# Altium footprint library Buck.PcbLib: 30 footprints (part 2 of 2)
Each footprint in its own frame and in the unit in brackets; x right, y up, seen from the top. Pads: shape width x height; smd on the part's side, far side on the other; paste and mask are expansions set on the pad; w line width, h text height; cw(c..) or ccw(c..) is an arc to the next point about the centre after c.
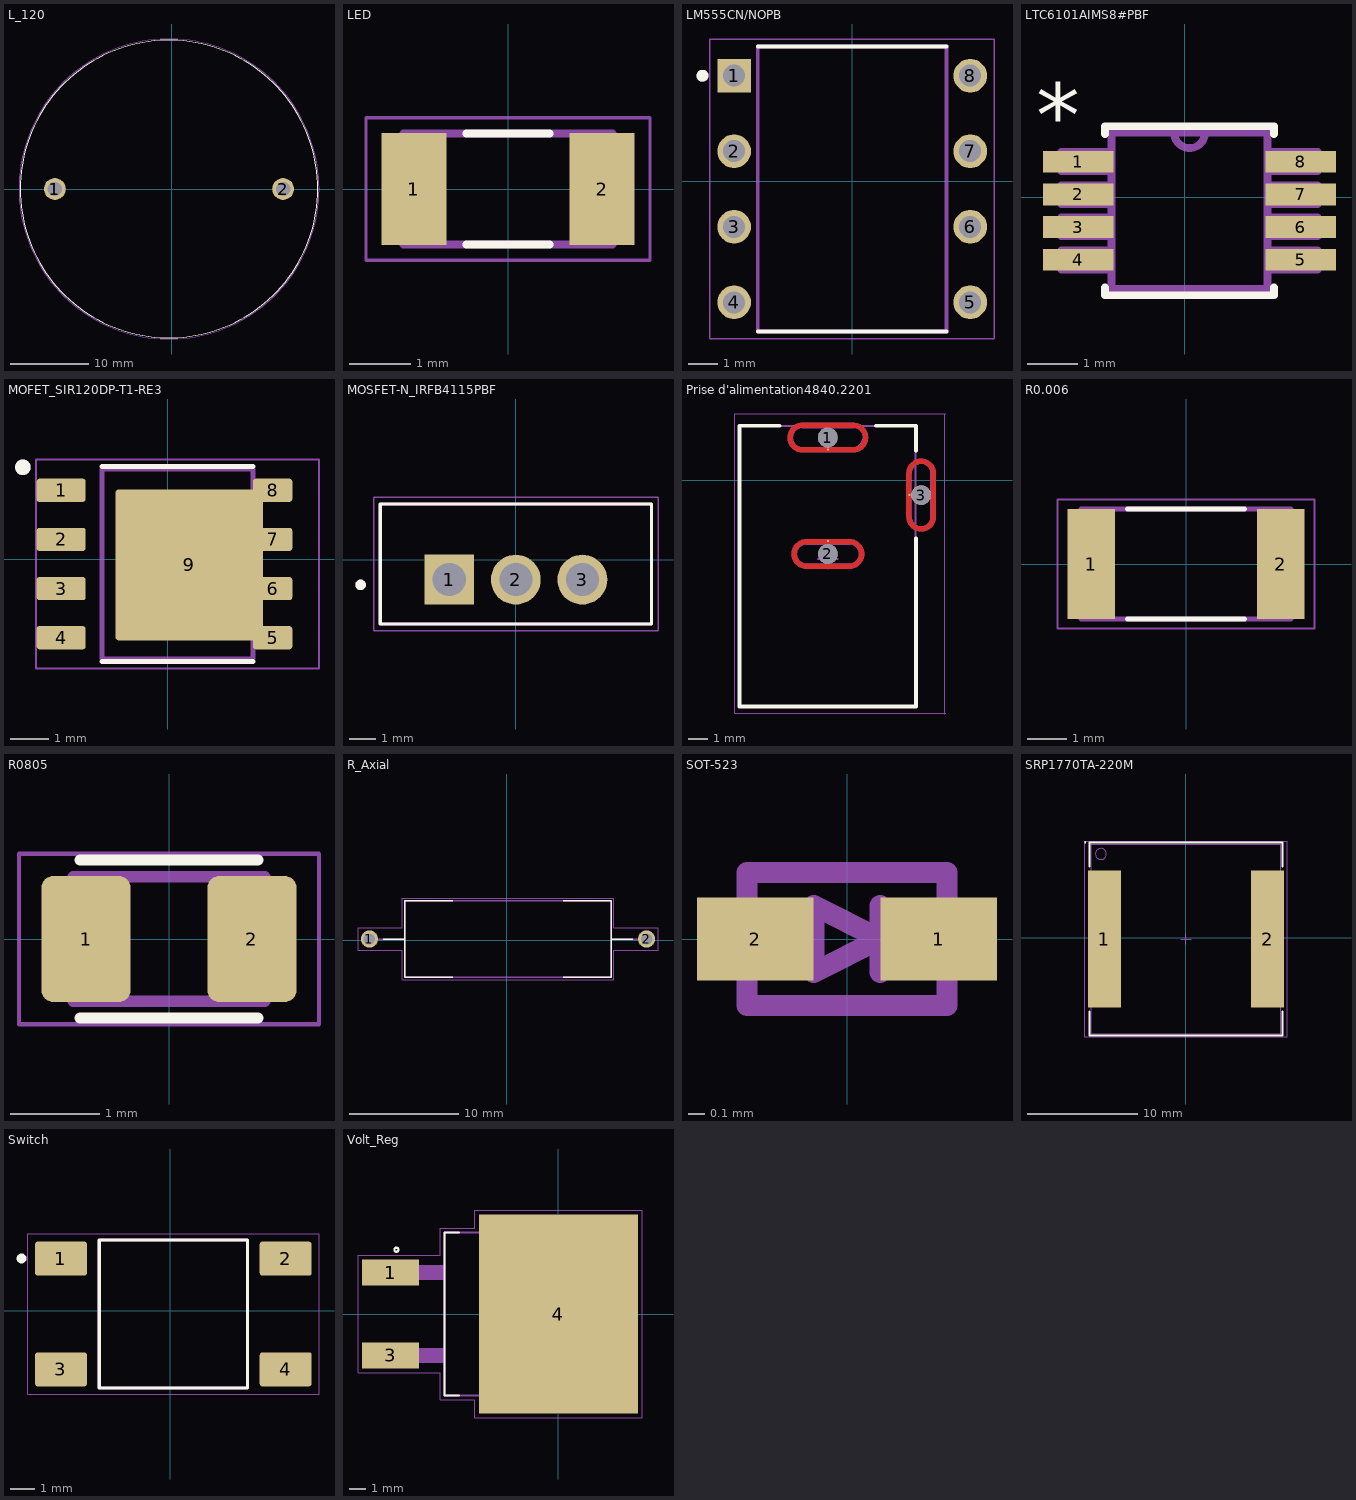
[diagram p1: the footprints below, top view; thin cyan lines are the x and y axes]

## L_120 [mm]
pads (2):
  round 2.8 hole 1.85: 1(-14.986,0) 2(14.224,0)
Top Overlay:
  circle w0.127: c-0.381,0 r19.05
Mechanical 15:
  circle w0.127: c-0.381,0 r19.2
3D body: height 26, standoff 0, extent -19.508,-18.842 18.492,19.147

## LED [mm]
pads (2):
  rect 1.06x1.82 smd: 1(-1.528,0) 2(1.528,0)
Top Overlay:
  lines w0.127: -0.68,-0.9 0.68,-0.9 ; -0.68,0.9 0.68,0.9
Mechanical 13:
  lines w0.127: -1.7,-0.9 -1.7,0.9 1.7,0.9 1.7,-0.9 -1.7,-0.9
Mechanical 15:
  lines w0.05: -2.308,-1.158 -2.308,1.158 2.308,1.158 2.308,-1.158 -2.308,-1.158
3D body "BL-LS0805UWC.STEP": height 0.8, standoff 0, extent -0.925,-0.635 0.875,0.615

## LM555CN/NOPB [mm]
pads (8):
  rect 1.13x1.13 hole 0.74: 1(-3.97,3.556)
  round 1.13 hole 0.74: 2(-3.97,1.016) 3(-3.97,-1.524) 4(-3.97,-4.064) 5(3.97,-4.064) 6(3.97,-1.524) 7(3.97,1.016) 8(3.97,3.556)
Top Overlay:
  circle w0.2: c-5.035,3.556 r0.1
  lines w0.127: -3.175,-5.049 3.175,-5.049 ; -3.175,4.541 3.175,4.541
Mechanical 13:
  circle w0.2: c-5.035,3.556 r0.1
  lines w0.127: -3.175,-5.049 3.175,-5.049 3.175,4.541 -3.175,4.541 -3.175,-5.049
Mechanical 15:
  lines w0.05: -4.785,-5.299 4.785,-5.299 4.785,4.791 -4.785,4.791 -4.785,-5.299
3D body "DIP8.STEP": height 3.85, standoff -2, extent -3.859,-4.727 4.011,4.473

## LTC6101AIMS8#PBF [mil]
pads (8):
  rect 55x17 smd: 1(-83.25,27.88) 2(-83.25,2.29) 3(-83.25,-23.3) 4(-83.25,-48.89) 5(90.75,-48.89) 6(90.75,-23.3) 7(90.75,2.29) 8(90.75,27.88)
Top Overlay:
  lines w6: -62.25,-70.5 -62.25,-76.5 69.75,-76.5 69.75,-70.5 ; -62.25,49.5 -62.25,55.5 69.75,55.5 69.75,49.5
  text "*" at -116.25,39.5 h50
Mechanical 13:
  lines w6: -8.25,50.5 ccw(c3.75,50.5) 15.75,50.5 ; -8.25,50.5 15.75,50.5 ; -8.25,50.5 -57.25,50.5 -57.25,-71.5 64.75,-71.5 64.75,50.5 15.75,50.5 ; -96.25,-56.5 -96.25,-41.5 -57.25,-41.5 -57.25,-56.5 -96.25,-56.5 ; -96.25,-30.5 -96.25,-15.5 -57.25,-15.5 -57.25,-30.5 -96.25,-30.5 ; -96.25,-5.5 -96.25,9.5 -57.25,9.5 -57.25,-5.5 -96.25,-5.5 ; -96.25,20.5 -96.25,35.5 -57.25,35.5 -57.25,20.5 -96.25,20.5 ; 64.75,-56.5 64.75,-41.5 103.75,-41.5 103.75,-56.5 64.75,-56.5 ; 64.75,-30.5 64.75,-15.5 103.75,-15.5 103.75,-30.5 64.75,-30.5 ; 64.75,-5.5 64.75,9.5 103.75,9.5 103.75,-5.5 64.75,-5.5 ; 64.75,20.5 64.75,35.5 103.75,35.5 103.75,20.5 64.75,20.5
  text "*" at -65.25,-2.5 h50
3D body "step_temp.STEP": height 40.55, standoff -2.76, extent -92.7,-69.56 100.21,48.55

## MOFET_SIR120DP-T1-RE3 [mm]
pads (9):
  rrect25% 1.27x0.6 smd: 1(-2.756,1.778) 2(-2.756,0.508) 3(-2.756,-0.762) 4(-2.756,-2.032)
  rrect25% 1.02x0.6 smd: 5(2.709,-2.032) 6(2.709,-0.762) 7(2.709,0.508) 8(2.709,1.778)
  rrect5% 3.81x3.91 smd: 9(0.55,-0.15)
Top Overlay:
  circle w0.2: c-3.746,2.373 r0.1
  lines w0.127: -1.696,-2.652 2.204,-2.652 ; -1.696,2.398 2.204,2.398
Mechanical 13:
  circle w0.2: c-3.746,2.373 r0.1
  lines w0.127: -1.696,-2.577 2.204,-2.577 2.204,2.323 -1.696,2.323 -1.696,-2.577
Mechanical 15:
  lines w0.05: -3.401,-2.827 3.909,-2.827 3.909,2.573 -3.401,2.573 -3.401,-2.827
3D body "SO8.STEP": height 2.05, standoff -0.07, extent -3.237,-2.602 2.998,2.398

## MOSFET-N_IRFB4115PBF [mm]
pads (3):
  rect 1.91x1.91 hole 1.27: 1(-2.54,-0.762)
  round 1.91 hole 1.27: 2(0.01,-0.762) 3(2.56,-0.762)
Top Overlay:
  circle w0.2: c-5.94,-0.962 r0.1
  lines w0.127: -5.19,-2.462 5.21,-2.462 5.21,2.138 -5.19,2.138 -5.19,-2.462
Mechanical 13:
  circle w0.2: c-5.94,-0.962 r0.1
  lines w0.127: -5.19,-2.462 -5.19,2.138 5.21,2.138 5.21,-2.462 -5.19,-2.462
Mechanical 15:
  lines w0.05: -5.44,-2.712 -5.44,2.388 5.46,2.388 5.46,-2.712 -5.44,-2.712

## Prise d'alimentation4840.2201 [mm]
pads (6):
  rect 0.1x0.1 smd paste-1 mask+0: 1(7.594,1.579) 2(7.6,-3.1) 3(11.75,-0.75)
  round 1 hole 1 unplated: 1(7.594,2.179) 2(7.6,-3.75) 3(12.35,-0.75)
Top Layer:
  region: 8.933,2.928 8.972,2.925 9.011,2.92 9.05,2.913 9.088,2.903 9.126,2.892 9.163,2.879 9.199,2.864 9.234,2.847 9.269,2.829 9.302,2.808 9.335,2.786 9.366,2.762 9.396,2.736 9.424,2.709 9.451,2.681 9.477,2.651 9.501,2.62 9.523,2.587 9.544,2.554 9.562,2.519 9.579,2.484 9.594,2.448 9.607,2.411 9.618,2.373 9.628,2.335 9.635,2.296 9.64,2.257 9.643,2.218 9.644,2.179 9.643,2.14 9.64,2.101 9.635,2.062 9.628,2.023 9.618,1.985 9.607,1.947 9.594,1.91 9.579,1.874 9.562,1.839 9.544,1.804 9.523,1.771 9.501,1.738 9.477,1.707 9.451,1.677 9.424,1.649 9.396,1.622 9.366,1.596 9.335,1.572 9.302,1.55 9.269,1.529 9.234,1.511 9.199,1.494 9.163,1.479 9.126,1.466 9.088,1.455 9.05,1.445 9.011,1.438 8.972,1.433 8.933,1.43 8.894,1.429 7.594,1.429 7.594,1.679 8.894,1.679 8.92,1.68 8.946,1.682 8.972,1.685 8.998,1.69 9.023,1.696 9.049,1.703 9.073,1.712 9.097,1.722 9.121,1.733 9.144,1.746 9.166,1.76 9.188,1.774 9.209,1.79 9.229,1.807 9.248,1.825 9.266,1.844 9.283,1.864 9.299,1.885 9.313,1.907 9.327,1.929 9.34,1.952 9.351,1.976 9.361,2 9.37,2.024 9.377,2.05 9.383,2.075 9.388,2.101 9.391,2.127 9.393,2.153 9.394,2.179 9.393,2.205 9.391,2.231 9.388,2.257 9.383,2.283 9.377,2.308 9.37,2.334 9.361,2.358 9.351,2.382 9.34,2.406 9.327,2.429 9.313,2.451 9.299,2.473 9.283,2.494 9.266,2.514 9.248,2.533 9.229,2.551 9.209,2.568 9.188,2.584 9.166,2.598 9.144,2.612 9.121,2.625 9.097,2.636 9.073,2.646 9.049,2.655 9.023,2.662 8.998,2.668 8.972,2.673 8.946,2.676 8.92,2.678 8.894,2.679 7.594,2.679 7.594,2.929 8.894,2.929
  region: 7.594,2.679 6.294,2.679 6.268,2.678 6.242,2.676 6.216,2.673 6.19,2.668 6.165,2.662 6.139,2.655 6.115,2.646 6.091,2.636 6.067,2.625 6.044,2.612 6.022,2.598 6,2.584 5.979,2.568 5.959,2.551 5.94,2.533 5.922,2.514 5.905,2.494 5.889,2.473 5.875,2.451 5.861,2.429 5.848,2.406 5.837,2.382 5.827,2.358 5.818,2.334 5.811,2.308 5.805,2.283 5.8,2.257 5.797,2.231 5.795,2.205 5.794,2.179 5.795,2.153 5.797,2.127 5.8,2.101 5.805,2.075 5.811,2.05 5.818,2.024 5.827,2 5.837,1.976 5.848,1.952 5.861,1.929 5.875,1.907 5.889,1.885 5.905,1.864 5.922,1.844 5.94,1.825 5.959,1.807 5.979,1.79 6,1.774 6.022,1.76 6.044,1.746 6.067,1.733 6.091,1.722 6.115,1.712 6.139,1.703 6.165,1.696 6.19,1.69 6.216,1.685 6.242,1.682 6.268,1.68 6.294,1.679 7.594,1.679 7.594,1.429 6.294,1.429 6.255,1.43 6.216,1.433 6.177,1.438 6.138,1.445 6.1,1.455 6.062,1.466 6.025,1.479 5.989,1.494 5.954,1.511 5.919,1.529 5.886,1.55 5.853,1.572 5.822,1.596 5.792,1.622 5.764,1.649 5.737,1.677 5.711,1.707 5.687,1.738 5.665,1.771 5.644,1.804 5.626,1.839 5.609,1.874 5.594,1.91 5.581,1.947 5.57,1.985 5.56,2.023 5.553,2.062 5.548,2.101 5.545,2.14 5.544,2.179 5.545,2.218 5.548,2.257 5.553,2.296 5.56,2.335 5.57,2.373 5.581,2.411 5.594,2.448 5.609,2.484 5.626,2.519 5.644,2.554 5.665,2.587 5.687,2.62 5.711,2.651 5.737,2.681 5.764,2.709 5.792,2.736 5.822,2.762 5.853,2.786 5.886,2.808 5.919,2.829 5.954,2.847 5.989,2.864 6.025,2.879 6.062,2.892 6.1,2.903 6.138,2.913 6.177,2.92 6.216,2.925 6.255,2.928 6.294,2.929 7.594,2.929
  region: 13.1,-1.75 13.099,-1.789 13.096,-1.928 13.091,-1.967 13.084,-2.006 13.074,-2.044 13.063,-2.082 13.05,-2.119 13.035,-2.155 13.018,-2.19 13,-2.225 12.979,-2.258 12.957,-2.291 12.933,-2.322 12.907,-2.352 12.88,-2.38 12.852,-2.407 12.822,-2.433 12.791,-2.457 12.758,-2.479 12.725,-2.5 12.69,-2.518 12.655,-2.535 12.619,-2.55 12.582,-2.563 12.544,-2.574 12.506,-2.584 12.467,-2.591 12.428,-2.596 12.389,-2.599 12.35,-2.6 12.311,-2.599 12.272,-2.596 12.233,-2.591 12.194,-2.584 12.156,-2.574 12.118,-2.563 12.081,-2.55 12.045,-2.535 12.01,-2.518 11.975,-2.5 11.942,-2.479 11.909,-2.457 11.878,-2.433 11.848,-2.407 11.82,-2.38 11.793,-2.352 11.767,-2.322 11.743,-2.291 11.721,-2.258 11.7,-2.225 11.682,-2.19 11.665,-2.155 11.65,-2.119 11.637,-2.082 11.626,-2.044 11.616,-2.006 11.609,-1.967 11.604,-1.928 11.601,-1.889 11.6,-1.85 11.6,-0.75 11.85,-0.75 11.85,-1.85 11.851,-1.876 11.853,-1.902 11.856,-1.928 11.861,-1.954 11.867,-1.979 11.874,-2.005 11.883,-2.029 11.893,-2.053 11.904,-2.077 11.917,-2.1 11.931,-2.122 11.945,-2.144 11.961,-2.165 11.978,-2.185 11.996,-2.204 12.015,-2.222 12.035,-2.239 12.056,-2.255 12.078,-2.269 12.1,-2.283 12.123,-2.296 12.147,-2.307 12.171,-2.317 12.195,-2.326 12.221,-2.333 12.246,-2.339 12.272,-2.344 12.298,-2.347 12.324,-2.349 12.35,-2.35 12.376,-2.349 12.402,-2.347 12.428,-2.344 12.454,-2.339 12.479,-2.333 12.505,-2.326 12.529,-2.317 12.553,-2.307 12.577,-2.296 12.6,-2.283 12.622,-2.269 12.644,-2.255 12.665,-2.239 12.685,-2.222 12.704,-2.204 12.722,-2.185 12.739,-2.165 12.755,-2.144 12.769,-2.122 12.783,-2.1 12.796,-2.077 12.807,-2.053 12.817,-2.029 12.826,-2.005 12.833,-1.979 12.839,-1.954 12.844,-1.928 12.847,-1.902 12.849,-1.876 12.85,-1.85 12.85,-0.75 13.1,-0.75
  region: 12.389,1.099 12.428,1.096 12.467,1.091 12.506,1.084 12.544,1.074 12.582,1.063 12.619,1.05 12.655,1.035 12.69,1.018 12.725,1 12.758,0.979 12.791,0.957 12.822,0.933 12.852,0.907 12.88,0.88 12.907,0.852 12.933,0.822 12.957,0.791 12.979,0.758 13,0.725 13.018,0.69 13.035,0.655 13.05,0.619 13.063,0.582 13.074,0.544 13.084,0.506 13.091,0.467 13.096,0.428 13.099,0.389 13.1,0.35 13.1,-0.75 12.85,-0.75 12.85,0.35 12.849,0.376 12.847,0.402 12.844,0.428 12.839,0.454 12.833,0.479 12.826,0.505 12.817,0.529 12.807,0.553 12.796,0.577 12.783,0.6 12.769,0.622 12.755,0.644 12.739,0.665 12.722,0.685 12.704,0.704 12.685,0.722 12.665,0.739 12.644,0.755 12.622,0.769 12.6,0.783 12.577,0.796 12.553,0.807 12.529,0.817 12.505,0.826 12.479,0.833 12.454,0.839 12.428,0.844 12.402,0.847 12.376,0.849 12.35,0.85 12.324,0.849 12.298,0.847 12.272,0.844 12.246,0.839 12.221,0.833 12.195,0.826 12.171,0.817 12.147,0.807 12.123,0.796 12.1,0.783 12.078,0.769 12.056,0.755 12.035,0.739 12.015,0.722 11.996,0.704 11.978,0.685 11.961,0.665 11.945,0.644 11.931,0.622 11.917,0.6 11.904,0.577 11.893,0.553 11.883,0.529 11.874,0.505 11.867,0.479 11.861,0.454 11.856,0.428 11.853,0.402 11.851,0.376 11.85,0.35 11.85,-0.75 11.6,-0.75 11.6,0.35 11.601,0.389 11.604,0.428 11.609,0.467 11.616,0.506 11.626,0.544 11.637,0.582 11.65,0.619 11.665,0.655 11.682,0.69 11.7,0.725 11.721,0.758 11.743,0.791 11.767,0.822 11.793,0.852 11.82,0.88 11.848,0.907 11.878,0.933 11.909,0.957 11.942,0.979 11.975,1 12.01,1.018 12.045,1.035 12.081,1.05 12.118,1.063 12.156,1.074 12.194,1.084 12.233,1.091 12.272,1.096 12.311,1.099 12.35,1.1
  region: 8.739,-3.001 8.778,-3.004 8.817,-3.009 8.856,-3.016 8.894,-3.026 8.932,-3.037 8.969,-3.05 9.005,-3.065 9.04,-3.082 9.075,-3.1 9.108,-3.121 9.141,-3.143 9.172,-3.167 9.202,-3.193 9.23,-3.22 9.257,-3.248 9.283,-3.278 9.307,-3.309 9.329,-3.342 9.35,-3.375 9.368,-3.41 9.385,-3.445 9.4,-3.481 9.413,-3.518 9.424,-3.556 9.434,-3.594 9.441,-3.633 9.446,-3.672 9.449,-3.711 9.45,-3.75 9.449,-3.789 9.446,-3.828 9.441,-3.867 9.434,-3.906 9.424,-3.944 9.413,-3.982 9.4,-4.019 9.385,-4.055 9.368,-4.09 9.35,-4.125 9.329,-4.158 9.307,-4.191 9.283,-4.222 9.257,-4.252 9.23,-4.28 9.202,-4.307 9.172,-4.333 9.141,-4.357 9.108,-4.379 9.075,-4.4 9.04,-4.418 9.005,-4.435 8.969,-4.45 8.932,-4.463 8.894,-4.474 8.856,-4.484 8.817,-4.491 8.778,-4.496 8.739,-4.499 8.7,-4.5 7.6,-4.5 7.6,-4.25 8.7,-4.25 8.726,-4.249 8.752,-4.247 8.778,-4.244 8.804,-4.239 8.829,-4.233 8.855,-4.226 8.879,-4.217 8.903,-4.207 8.927,-4.196 8.95,-4.183 8.972,-4.169 8.994,-4.155 9.015,-4.139 9.035,-4.122 9.054,-4.104 9.072,-4.085 9.089,-4.065 9.105,-4.044 9.119,-4.022 9.133,-4 9.146,-3.977 9.157,-3.953 9.167,-3.929 9.176,-3.905 9.183,-3.879 9.189,-3.854 9.194,-3.828 9.197,-3.802 9.199,-3.776 9.2,-3.75 9.199,-3.724 9.197,-3.698 9.194,-3.672 9.189,-3.646 9.183,-3.621 9.176,-3.595 9.167,-3.571 9.157,-3.547 9.146,-3.523 9.133,-3.5 9.119,-3.478 9.105,-3.456 9.089,-3.435 9.072,-3.415 9.054,-3.396 9.035,-3.378 9.015,-3.361 8.994,-3.345 8.972,-3.331 8.95,-3.317 8.927,-3.304 8.903,-3.293 8.879,-3.283 8.855,-3.274 8.829,-3.267 8.804,-3.261 8.778,-3.256 8.752,-3.253 8.726,-3.251 8.7,-3.25 7.6,-3.25 7.6,-3 8.7,-3
  region: 7.6,-3.25 6.5,-3.25 6.474,-3.251 6.448,-3.253 6.422,-3.256 6.396,-3.261 6.371,-3.267 6.345,-3.274 6.321,-3.283 6.297,-3.293 6.273,-3.304 6.25,-3.317 6.228,-3.331 6.206,-3.345 6.185,-3.361 6.165,-3.378 6.146,-3.396 6.128,-3.415 6.111,-3.435 6.095,-3.456 6.081,-3.478 6.067,-3.5 6.054,-3.523 6.043,-3.547 6.033,-3.571 6.024,-3.595 6.017,-3.621 6.011,-3.646 6.006,-3.672 6.003,-3.698 6.001,-3.724 6,-3.75 6.001,-3.776 6.003,-3.802 6.006,-3.828 6.011,-3.854 6.017,-3.879 6.024,-3.905 6.033,-3.929 6.043,-3.953 6.054,-3.977 6.067,-4 6.081,-4.022 6.095,-4.044 6.111,-4.065 6.128,-4.085 6.146,-4.104 6.165,-4.122 6.185,-4.139 6.206,-4.155 6.228,-4.169 6.25,-4.183 6.273,-4.196 6.297,-4.207 6.321,-4.217 6.345,-4.226 6.371,-4.233 6.396,-4.239 6.422,-4.244 6.448,-4.247 6.474,-4.249 6.5,-4.25 7.6,-4.25 7.6,-4.5 6.5,-4.5 6.461,-4.499 6.422,-4.496 6.383,-4.491 6.344,-4.484 6.306,-4.474 6.268,-4.463 6.231,-4.45 6.195,-4.435 6.16,-4.418 6.125,-4.4 6.092,-4.379 6.059,-4.357 6.028,-4.333 5.998,-4.307 5.97,-4.28 5.943,-4.252 5.917,-4.222 5.893,-4.191 5.871,-4.158 5.85,-4.125 5.832,-4.09 5.815,-4.055 5.8,-4.019 5.787,-3.982 5.776,-3.944 5.766,-3.906 5.759,-3.867 5.754,-3.828 5.751,-3.789 5.75,-3.75 5.751,-3.711 5.754,-3.672 5.759,-3.633 5.766,-3.594 5.776,-3.556 5.787,-3.518 5.8,-3.481 5.815,-3.445 5.832,-3.41 5.85,-3.375 5.871,-3.342 5.893,-3.309 5.917,-3.278 5.943,-3.248 5.97,-3.22 5.998,-3.193 6.028,-3.167 6.059,-3.143 6.092,-3.121 6.125,-3.1 6.16,-3.082 6.195,-3.065 6.231,-3.05 6.268,-3.037 6.306,-3.026 6.344,-3.016 6.383,-3.009 6.422,-3.004 6.461,-3.001 6.5,-3 7.6,-3
Bottom Layer:
  region: 8.933,2.928 8.972,2.925 9.011,2.92 9.05,2.913 9.088,2.903 9.126,2.892 9.163,2.879 9.199,2.864 9.234,2.847 9.269,2.829 9.302,2.808 9.335,2.786 9.366,2.762 9.396,2.736 9.424,2.709 9.451,2.681 9.477,2.651 9.501,2.62 9.523,2.587 9.544,2.554 9.562,2.519 9.579,2.484 9.594,2.448 9.607,2.411 9.618,2.373 9.628,2.335 9.635,2.296 9.64,2.257 9.643,2.218 9.644,2.179 9.643,2.14 9.64,2.101 9.635,2.062 9.628,2.023 9.618,1.985 9.607,1.947 9.594,1.91 9.579,1.874 9.562,1.839 9.544,1.804 9.523,1.771 9.501,1.738 9.477,1.707 9.451,1.677 9.424,1.649 9.396,1.622 9.366,1.596 9.335,1.572 9.302,1.55 9.269,1.529 9.234,1.511 9.199,1.494 9.163,1.479 9.126,1.466 9.088,1.455 9.05,1.445 9.011,1.438 8.972,1.433 8.933,1.43 8.894,1.429 7.594,1.429 7.594,1.679 8.894,1.679 8.92,1.68 8.946,1.682 8.972,1.685 8.998,1.69 9.023,1.696 9.049,1.703 9.073,1.712 9.097,1.722 9.121,1.733 9.144,1.746 9.166,1.76 9.188,1.774 9.209,1.79 9.229,1.807 9.248,1.825 9.266,1.844 9.283,1.864 9.299,1.885 9.313,1.907 9.327,1.929 9.34,1.952 9.351,1.976 9.361,2 9.37,2.024 9.377,2.05 9.383,2.075 9.388,2.101 9.391,2.127 9.393,2.153 9.394,2.179 9.393,2.205 9.391,2.231 9.388,2.257 9.383,2.283 9.377,2.308 9.37,2.334 9.361,2.358 9.351,2.382 9.34,2.406 9.327,2.429 9.313,2.451 9.299,2.473 9.283,2.494 9.266,2.514 9.248,2.533 9.229,2.551 9.209,2.568 9.188,2.584 9.166,2.598 9.144,2.612 9.121,2.625 9.097,2.636 9.073,2.646 9.049,2.655 9.023,2.662 8.998,2.668 8.972,2.673 8.946,2.676 8.92,2.678 8.894,2.679 7.594,2.679 7.594,2.929 8.894,2.929
  region: 7.594,2.679 6.294,2.679 6.268,2.678 6.242,2.676 6.216,2.673 6.19,2.668 6.165,2.662 6.139,2.655 6.115,2.646 6.091,2.636 6.067,2.625 6.044,2.612 6.022,2.598 6,2.584 5.979,2.568 5.959,2.551 5.94,2.533 5.922,2.514 5.905,2.494 5.889,2.473 5.875,2.451 5.861,2.429 5.848,2.406 5.837,2.382 5.827,2.358 5.818,2.334 5.811,2.308 5.805,2.283 5.8,2.257 5.797,2.231 5.795,2.205 5.794,2.179 5.795,2.153 5.797,2.127 5.8,2.101 5.805,2.075 5.811,2.05 5.818,2.024 5.827,2 5.837,1.976 5.848,1.952 5.861,1.929 5.875,1.907 5.889,1.885 5.905,1.864 5.922,1.844 5.94,1.825 5.959,1.807 5.979,1.79 6,1.774 6.022,1.76 6.044,1.746 6.067,1.733 6.091,1.722 6.115,1.712 6.139,1.703 6.165,1.696 6.19,1.69 6.216,1.685 6.242,1.682 6.268,1.68 6.294,1.679 7.594,1.679 7.594,1.429 6.294,1.429 6.255,1.43 6.216,1.433 6.177,1.438 6.138,1.445 6.1,1.455 6.062,1.466 6.025,1.479 5.989,1.494 5.954,1.511 5.919,1.529 5.886,1.55 5.853,1.572 5.822,1.596 5.792,1.622 5.764,1.649 5.737,1.677 5.711,1.707 5.687,1.738 5.665,1.771 5.644,1.804 5.626,1.839 5.609,1.874 5.594,1.91 5.581,1.947 5.57,1.985 5.56,2.023 5.553,2.062 5.548,2.101 5.545,2.14 5.544,2.179 5.545,2.218 5.548,2.257 5.553,2.296 5.56,2.335 5.57,2.373 5.581,2.411 5.594,2.448 5.609,2.484 5.626,2.519 5.644,2.554 5.665,2.587 5.687,2.62 5.711,2.651 5.737,2.681 5.764,2.709 5.792,2.736 5.822,2.762 5.853,2.786 5.886,2.808 5.919,2.829 5.954,2.847 5.989,2.864 6.025,2.879 6.062,2.892 6.1,2.903 6.138,2.913 6.177,2.92 6.216,2.925 6.255,2.928 6.294,2.929 7.594,2.929
  region: 13.1,-1.85 13.099,-1.889 13.096,-1.928 13.091,-1.967 13.084,-2.006 13.074,-2.044 13.063,-2.082 13.05,-2.119 13.035,-2.155 13.018,-2.19 13,-2.225 12.979,-2.258 12.957,-2.291 12.933,-2.322 12.907,-2.352 12.88,-2.38 12.852,-2.407 12.822,-2.433 12.791,-2.457 12.758,-2.479 12.725,-2.5 12.69,-2.518 12.655,-2.535 12.619,-2.55 12.582,-2.563 12.544,-2.574 12.506,-2.584 12.467,-2.591 12.428,-2.596 12.389,-2.599 12.35,-2.6 12.311,-2.599 12.272,-2.596 12.233,-2.591 12.194,-2.584 12.156,-2.574 12.118,-2.563 12.081,-2.55 12.045,-2.535 12.01,-2.518 11.975,-2.5 11.942,-2.479 11.909,-2.457 11.878,-2.433 11.848,-2.407 11.82,-2.38 11.793,-2.352 11.767,-2.322 11.743,-2.291 11.721,-2.258 11.7,-2.225 11.682,-2.19 11.665,-2.155 11.65,-2.119 11.637,-2.082 11.626,-2.044 11.616,-2.006 11.609,-1.967 11.604,-1.928 11.601,-1.889 11.6,-1.85 11.6,-0.75 11.85,-0.75 11.85,-1.85 11.851,-1.876 11.853,-1.902 11.856,-1.928 11.861,-1.954 11.867,-1.979 11.874,-2.005 11.883,-2.029 11.893,-2.053 11.904,-2.077 11.917,-2.1 11.931,-2.122 11.945,-2.144 11.961,-2.165 11.978,-2.185 11.996,-2.204 12.015,-2.222 12.035,-2.239 12.056,-2.255 12.078,-2.269 12.1,-2.283 12.123,-2.296 12.147,-2.307 12.171,-2.317 12.195,-2.326 12.221,-2.333 12.246,-2.339 12.272,-2.344 12.298,-2.347 12.324,-2.349 12.35,-2.35 12.376,-2.349 12.402,-2.347 12.428,-2.344 12.454,-2.339 12.479,-2.333 12.505,-2.326 12.529,-2.317 12.553,-2.307 12.577,-2.296 12.6,-2.283 12.622,-2.269 12.644,-2.255 12.665,-2.239 12.685,-2.222 12.704,-2.204 12.722,-2.185 12.739,-2.165 12.755,-2.144 12.769,-2.122 12.783,-2.1 12.796,-2.077 12.807,-2.053 12.817,-2.029 12.826,-2.005 12.833,-1.979 12.839,-1.954 12.844,-1.928 12.847,-1.902 12.849,-1.876 12.85,-1.85 12.85,-0.75 13.1,-0.75
  region: 12.389,1.099 12.428,1.096 12.467,1.091 12.506,1.084 12.544,1.074 12.582,1.063 12.619,1.05 12.655,1.035 12.69,1.018 12.725,1 12.758,0.979 12.791,0.957 12.822,0.933 12.852,0.907 12.88,0.88 12.907,0.852 12.933,0.822 12.957,0.791 12.979,0.758 13,0.725 13.018,0.69 13.035,0.655 13.05,0.619 13.063,0.582 13.074,0.544 13.084,0.506 13.091,0.467 13.096,0.428 13.099,0.389 13.1,0.35 13.1,-0.75 12.85,-0.75 12.85,0.35 12.849,0.376 12.847,0.402 12.844,0.428 12.839,0.454 12.833,0.479 12.826,0.505 12.817,0.529 12.807,0.553 12.796,0.577 12.783,0.6 12.769,0.622 12.755,0.644 12.739,0.665 12.722,0.685 12.704,0.704 12.685,0.722 12.665,0.739 12.644,0.755 12.622,0.769 12.6,0.783 12.577,0.796 12.553,0.807 12.529,0.817 12.505,0.826 12.479,0.833 12.454,0.839 12.428,0.844 12.402,0.847 12.376,0.849 12.35,0.85 12.324,0.849 12.298,0.847 12.272,0.844 12.246,0.839 12.221,0.833 12.195,0.826 12.171,0.817 12.147,0.807 12.123,0.796 12.1,0.783 12.078,0.769 12.056,0.755 12.035,0.739 12.015,0.722 11.996,0.704 11.978,0.685 11.961,0.665 11.945,0.644 11.931,0.622 11.917,0.6 11.904,0.577 11.893,0.553 11.883,0.529 11.874,0.505 11.867,0.479 11.861,0.454 11.856,0.428 11.853,0.402 11.851,0.376 11.85,0.35 11.85,-0.75 11.6,-0.75 11.6,0.35 11.601,0.389 11.604,0.428 11.609,0.467 11.616,0.506 11.626,0.544 11.637,0.582 11.65,0.619 11.665,0.655 11.682,0.69 11.7,0.725 11.721,0.758 11.743,0.791 11.767,0.822 11.793,0.852 11.82,0.88 11.848,0.907 11.878,0.933 11.909,0.957 11.942,0.979 11.975,1 12.01,1.018 12.045,1.035 12.081,1.05 12.118,1.063 12.156,1.074 12.194,1.084 12.233,1.091 12.272,1.096 12.311,1.099 12.35,1.1
  region: 8.739,-3.001 8.778,-3.004 8.817,-3.009 8.856,-3.016 8.894,-3.026 8.932,-3.037 8.969,-3.05 9.005,-3.065 9.04,-3.082 9.075,-3.1 9.108,-3.121 9.141,-3.143 9.172,-3.167 9.202,-3.193 9.23,-3.22 9.257,-3.248 9.283,-3.278 9.307,-3.309 9.329,-3.342 9.35,-3.375 9.368,-3.41 9.385,-3.445 9.4,-3.481 9.413,-3.518 9.424,-3.556 9.434,-3.594 9.441,-3.633 9.446,-3.672 9.449,-3.711 9.45,-3.75 9.449,-3.789 9.446,-3.828 9.441,-3.867 9.434,-3.906 9.424,-3.944 9.413,-3.982 9.4,-4.019 9.385,-4.055 9.368,-4.09 9.35,-4.125 9.329,-4.158 9.307,-4.191 9.283,-4.222 9.257,-4.252 9.23,-4.28 9.202,-4.307 9.172,-4.333 9.141,-4.357 9.108,-4.379 9.075,-4.4 9.04,-4.418 9.005,-4.435 8.969,-4.45 8.932,-4.463 8.894,-4.474 8.856,-4.484 8.817,-4.491 8.778,-4.496 8.739,-4.499 8.7,-4.5 7.6,-4.5 7.6,-4.25 8.7,-4.25 8.726,-4.249 8.752,-4.247 8.778,-4.244 8.804,-4.239 8.829,-4.233 8.855,-4.226 8.879,-4.217 8.903,-4.207 8.927,-4.196 8.95,-4.183 8.972,-4.169 8.994,-4.155 9.015,-4.139 9.035,-4.122 9.054,-4.104 9.072,-4.085 9.089,-4.065 9.105,-4.044 9.119,-4.022 9.133,-4 9.146,-3.977 9.157,-3.953 9.167,-3.929 9.176,-3.905 9.183,-3.879 9.189,-3.854 9.194,-3.828 9.197,-3.802 9.199,-3.776 9.2,-3.75 9.199,-3.724 9.197,-3.698 9.194,-3.672 9.189,-3.646 9.183,-3.621 9.176,-3.595 9.167,-3.571 9.157,-3.547 9.146,-3.523 9.133,-3.5 9.119,-3.478 9.105,-3.456 9.089,-3.435 9.072,-3.415 9.054,-3.396 9.035,-3.378 9.015,-3.361 8.994,-3.345 8.972,-3.331 8.95,-3.317 8.927,-3.304 8.903,-3.293 8.879,-3.283 8.855,-3.274 8.829,-3.267 8.804,-3.261 8.778,-3.256 8.752,-3.253 8.726,-3.251 8.7,-3.25 7.6,-3.25 7.6,-3 8.7,-3
  region: 7.6,-3.25 6.5,-3.25 6.474,-3.251 6.448,-3.253 6.422,-3.256 6.396,-3.261 6.371,-3.267 6.345,-3.274 6.321,-3.283 6.297,-3.293 6.273,-3.304 6.25,-3.317 6.228,-3.331 6.206,-3.345 6.185,-3.361 6.165,-3.378 6.146,-3.396 6.128,-3.415 6.111,-3.435 6.095,-3.456 6.081,-3.478 6.067,-3.5 6.054,-3.523 6.043,-3.547 6.033,-3.571 6.024,-3.595 6.017,-3.621 6.011,-3.646 6.006,-3.672 6.003,-3.698 6.001,-3.724 6,-3.75 6.001,-3.776 6.003,-3.802 6.006,-3.828 6.011,-3.854 6.017,-3.879 6.024,-3.905 6.033,-3.929 6.043,-3.953 6.054,-3.977 6.067,-4 6.081,-4.022 6.095,-4.044 6.111,-4.065 6.128,-4.085 6.146,-4.104 6.165,-4.122 6.185,-4.139 6.206,-4.155 6.228,-4.169 6.25,-4.183 6.273,-4.196 6.297,-4.207 6.321,-4.217 6.345,-4.226 6.371,-4.233 6.396,-4.239 6.422,-4.244 6.448,-4.247 6.474,-4.249 6.5,-4.25 7.6,-4.25 7.6,-4.5 6.5,-4.5 6.461,-4.499 6.422,-4.496 6.383,-4.491 6.344,-4.484 6.306,-4.474 6.268,-4.463 6.231,-4.45 6.195,-4.435 6.16,-4.418 6.125,-4.4 6.092,-4.379 6.059,-4.357 6.028,-4.333 5.998,-4.307 5.97,-4.28 5.943,-4.252 5.917,-4.222 5.893,-4.191 5.871,-4.158 5.85,-4.125 5.832,-4.09 5.815,-4.055 5.8,-4.019 5.787,-3.982 5.776,-3.944 5.766,-3.906 5.759,-3.867 5.754,-3.828 5.751,-3.789 5.75,-3.75 5.751,-3.711 5.754,-3.672 5.759,-3.633 5.766,-3.594 5.776,-3.556 5.787,-3.518 5.8,-3.481 5.815,-3.445 5.832,-3.41 5.85,-3.375 5.871,-3.342 5.893,-3.309 5.917,-3.278 5.943,-3.248 5.97,-3.22 5.998,-3.193 6.028,-3.167 6.059,-3.143 6.092,-3.121 6.125,-3.1 6.16,-3.082 6.195,-3.065 6.231,-3.05 6.268,-3.037 6.306,-3.026 6.344,-3.016 6.383,-3.009 6.422,-3.004 6.461,-3.001 6.5,-3 7.6,-3
Top Overlay:
  lines w0.2: 5.144,2.779 3.094,2.779 3.094,-11.521 12.094,-11.521 12.094,-2.971 ; 10.044,2.779 12.094,2.779 12.094,1.529
Top Paste:
  drawing of 6 lines, arcs and shapes, not listed
Bottom Paste:
  drawing of 6 lines, arcs and shapes, not listed
Top Solder:
  region: 9.744,1.335 5.442,1.335 5.442,3.029 9.744,3.029
  region: 14.3,-1.596 10.405,-1.596 10.405,0.1 14.3,0.1
  region: 9.55,-4.6 5.649,-4.6 5.649,-2.9 9.55,-2.9
Bottom Solder:
  region: 9.744,1.339 5.44,1.339 5.44,3.029 9.744,3.029
  region: 14.3,-1.495 10.405,-1.495 10.405,0 14.3,0.1
  region: 9.55,-4.6 5.65,-4.6 5.65,-2.9 9.55,-2.9
Mechanical 1:
  lines w0: 5.794,2.179 ccw(c6.294,2.179) 6.294,1.679 8.844,1.679 ccw(c8.844,2.229) 9.394,2.229 ccw(c8.944,2.229) 8.944,2.679 6.294,2.679 ccw(c6.294,2.179) 5.794,2.179 ; 6,-3.75 cw(c6.5,-3.75) 6.5,-3.25 8.7,-3.25 cw(c8.7,-3.75) 9.2,-3.75 cw(c8.7,-3.75) 8.7,-4.25 6.5,-4.25 cw(c6.5,-3.75) 6,-3.75 ; 11.85,-1.85 ccw(c12.35,-1.85) 12.35,-2.35 ccw(c12.35,-1.85) 12.85,-1.85 12.85,0.35 ccw(c12.35,0.35) 12.35,0.85 ccw(c12.35,0.35) 11.85,0.35 11.85,-1.85
Mechanical 13:
  lines w0.1: 7.1,-4 8.1,-4 ; 7.6,-4.5 7.6,-3.5 ; 12.05,-11.55 12.05,2.75 ; 12.094,-11.521 3.094,-11.521 3.094,2.779 12.094,2.779
Mechanical 15:
  lines w0.05: 13.55,-11.9 13.55,3.35 ; 13.594,-11.871 2.844,-11.871 2.844,3.379 13.594,3.379

## R0.006 [mm]
pads (2):
  rect 1.21x2.81 smd: 1(-2.416,0) 2(2.416,0)
Top Overlay:
  lines w0.127: -1.49,-1.4 1.49,-1.4 ; -1.49,1.4 1.49,1.4
Mechanical 13:
  lines w0.127: -2.67,-1.4 -2.67,1.4 2.67,1.4 2.67,-1.4 -2.67,-1.4
Mechanical 15:
  lines w0.05: -3.273,-1.647 -3.273,1.647 3.273,1.647 3.273,-1.647 -3.273,-1.647
3D body "rsmd-2010_l5_w2-5_h0-55.stp": height 0.55, standoff 0, extent -2.551,-1.199 2.449,1.301

## R0805 [mm]
pads (2):
  rrect25% 1x1.42 smd: 1(-0.935,0) 2(0.935,0)
Top Overlay:
  lines w0.127: -1,-0.89 1,-0.89 ; -1,0.89 1,0.89
Mechanical 13:
  lines w0.127: -1.08,-0.7 -1.08,0.7 1.08,0.7 1.08,-0.7 -1.08,-0.7
Mechanical 15:
  lines w0.05: -1.69,-0.96 -1.69,0.96 1.69,0.96 1.69,-0.96 -1.69,-0.96
3D body "rsmd-0805_l2_w1-25_h0-6.stp": height 0.6, standoff 0, extent -1.051,-0.686 0.949,0.564

## R_Axial [mm]
pads (2):
  round 1.575 hole 1.05: 1(-12.623,0.127) 2(12.877,0.127)
Top Overlay:
  lines w0.127: -11.373,0.127 -9.373,0.127 ; -4.943,-3.373 -9.373,-3.373 -9.373,0.127 ; -4.943,3.627 -9.373,3.627 -9.373,0.127 ; 5.197,-3.373 9.627,-3.373 9.627,0.127 ; 5.197,3.627 9.627,3.627 9.627,0.127 ; 11.627,0.127 9.627,0.127
Mechanical 13:
  lines w0.127: -12.573,0.127 -9.373,0.127 ; 9.627,0.127 12.827,0.127 ; -9.373,-3.373 9.627,-3.373 9.627,3.627 -9.373,3.627 -9.373,-3.373
Mechanical 15:
  lines w0.05: -13.673,-0.923 -13.673,1.177 -9.623,1.177 -9.623,3.877 9.877,3.877 9.877,1.177 13.927,1.177 13.927,-0.923 9.877,-0.923 9.877,-3.623 -9.623,-3.623 -9.623,-0.923 -13.673,-0.923

## SOT-523 [mm]
pads (2):
  rect 0.7x0.5 smd: 1(0.55,0) 2(-0.55,0)
Mechanical 13:
  region: 0.8,-0.15 0.6,-0.15 0.6,0.15 0.8,0.15
  region: -0.6,-0.15 -0.802,-0.15 -0.802,0.15 -0.6,0.15
  lines w0.127: 0.2,-0.2 0.2,0 ; 0.2,0.2 0.2,0 ; 0.2,0 -0.2,0.2 -0.2,-0.2 0.2,0 ; -0.6,-0.4 0.6,-0.4 0.6,0.4 -0.6,0.4 -0.6,-0.4
3D body "step_temp.STEP": height 0.65, standoff 0, extent -0.8,-0.4 0.8,0.4

## SRP1770TA-220M [mm]
pads (2):
  rect 3x12.45 smd: 1(-7.445,-0.127) 2(7.445,-0.127)
Top Overlay:
  circle w0.1: c-9.2,8.673 r0.05
  lines w0.2: -8.8,-6.752 -8.8,-8.927 8.8,-8.927 8.8,-6.752 ; -8.8,6.498 -8.8,8.673 8.8,8.673 8.8,6.498
Mechanical 13:
  circle w0.1: c-7.75,7.623 r0.5
  lines w0.1: -8.65,-8.777 8.65,-8.777 8.65,8.523 -8.65,8.523 -8.65,-8.777
Mechanical 15:
  lines w0.05: -9.205,-9.027 9.205,-9.027 9.205,8.773 -9.205,8.773 -9.205,-9.027
  lines w0.1: -0.5,-0.127 0.5,-0.127 ; 0,-0.627 0,0.373
3D body: height 5, standoff 0, extent -8.89,-8.927 8.8,8.673

## Switch [mm]
pads (4):
  rrect15% 2.1x1.38 smd: 1(-4.423,2.113) 2(4.677,2.113) 3(-4.423,-2.367) 4(4.677,-2.367)
Top Overlay:
  circle w0.2: c-6.024,2.122 r0.1
  lines w0.127: -2.873,-3.127 -2.873,2.873 3.127,2.873 3.127,-3.127 -2.873,-3.127
Mechanical 13:
  lines w0.127: -2.873,-3.127 3.127,-3.127 3.127,2.873 -2.873,2.873 -2.873,-3.127
Mechanical 15:
  lines w0.05: -5.773,-3.377 6.027,-3.377 6.027,3.123 -5.773,3.123 -5.773,-3.377
3D body "c-4-1437565-1-v-3d.stp": height 4.9, standoff -0.17, extent -5,-3.076 5,2.924

## Volt_Reg [mm]
pads (3):
  rect 3.5x1.6 smd: 1(-10.256,2.54) 3(-10.256,-2.54)
  rect 9.75x12.2 smd paste-7: 4(0.019,0)
Top Overlay:
  circle w0.127: c-9.906,3.937 r0.127
  lines w0.127: -6.071,-5 -6.956,-5 -6.956,5 -6.071,5
Top Paste:
  region: 3.664,0.295 2.294,0.295 2.294,1.765 3.664,1.765
  region: 3.664,-1.766 2.288,-1.766 2.288,-0.295 3.664,-0.295
  region: 1.694,-1.767 0.319,-1.767 0.319,-0.295 1.694,-0.295
  region: 1.694,0.295 0.32,0.295 0.32,1.765 1.694,1.765
  region: 1.694,2.362 0.318,2.362 0.318,3.83 1.694,3.83
  region: 3.664,2.362 2.288,2.362 2.288,3.83 3.664,3.83
  region: 1.694,-3.836 0.32,-3.836 0.32,-2.36 1.694,-2.36
  region: 3.664,-3.837 2.294,-3.837 2.294,-2.36 3.664,-2.36
  region: -2.246,-1.767 -3.626,-1.767 -3.626,-0.295 -2.246,-0.295
  region: -2.246,0.296 -3.626,0.296 -3.626,1.765 -2.246,1.765
  region: -0.276,0.295 -1.654,0.295 -1.654,1.765 -0.276,1.765
  region: -0.276,-1.766 -1.654,-1.766 -1.654,-0.295 -0.276,-0.295
  region: -0.276,-3.835 -1.654,-3.835 -1.654,-2.36 -0.276,-2.36
  region: -2.246,-3.834 -3.626,-3.834 -3.626,-2.36 -2.246,-2.36
  region: -0.276,2.362 -1.655,2.362 -1.655,3.83 -0.276,3.83
  region: -2.246,2.362 -3.626,2.362 -3.626,3.83 -2.246,3.83
Mechanical 13:
  region: -6.956,2.094 -11.771,2.094 -11.771,2.99 -6.956,2.99
  region: -6.956,-2.996 -11.772,-2.996 -11.772,-2.09 -6.956,-2.09
  lines w0.127: -6.956,-5 3.844,-5 3.844,5 -6.956,5 -6.956,-5
Mechanical 15:
  lines w0.05: -12.256,-3.6 -7.206,-3.6 -7.206,-5.25 -5.106,-5.25 -5.106,-6.35 5.144,-6.35 5.144,6.35 -5.106,6.35 -5.106,5.25 -7.206,5.25 -7.206,3.6 -12.256,3.6 -12.256,-3.6
3D body "D2PAK-2 L7805.step": height 5.08, standoff 0, extent -10.87,-5.102 4.754,4.898